# Altium schematic symbol library IC_NXP_TJA1040T-CM,118_eec.SchLib: 1 symbol
Pins are listed as number, name and electrical type; pins without a type are passive.

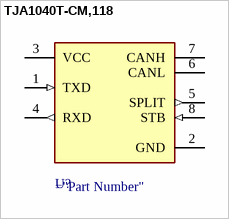
[diagram p0: symbol TJA1040T-CM,118]

## TJA1040T-CM,118
designator U?  (value not drawn)
pins: 1 TXD (in), 2 GND (power), 3 VCC (power), 4 RXD (out), 5 SPLIT (out), 6 CANL, 7 CANH, 8 STB (in)